# Altium schematic symbol library N76E003.SchLib: 1 symbol
Pins are listed as number, name and electrical type; pins without a type are passive.

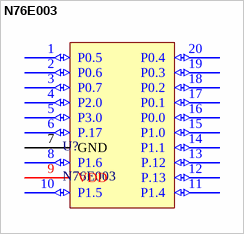
[diagram p0: symbol N76E003]

## N76E003
designator U?
footprint TSSOP-20
pins: 1 P0.5 (io) "PWM2/IC6/T0/AIN4/P0.5", 2 P0.6 (io) "TXD/AIN3/P0.6", 3 P0.7 (io) "RXD/AIN2/P0.7", 4 P2.0 (io) "RST", 5 P3.0 (io) "INT0/OSCIN/AIN1", 6 P.17 (io) "INT1/AIN0/P1.7", 7 GND (power), 8 P1.6 (io) "[SDA]/TXD_1/ICPDA/OCDDA/P1.6", 9 VDD (power), 10 P1.5 (io) "PWM5/IC7/SS/P1.5", 11 P1.4 (io) "P1.4/SDA/FB/PWM1", 12 P.13 (io) "P1.3/SCL/[STADC]", 13 P.12 (io) "P1.2/PWM0/IC0", 14 P1.1 (io) "P1.1/PWM1/IC1/AIN7/CLO", 15 P1.0 (io) "P1.0/PWM2/IC2/SPCLK", 16 P0.0 (io) "P0.0/PWM3/IC3/MOSI/T1", 17 P0.1 (io) "P0.1/PWM4/IC4/MISO", 18 P0.2 (io) "P0.2/ICPCK/OCDCK/RXD_1/[SCL]", 19 P0.3 (io) "P0.3/PWM5/IC5/AIN6", 20 P0.4 (io) "P0.4/AIN5/STADC/PWM3/IC3"